# Altium footprint library SparkFun-LED.PCBLIB: 1 footprints
Each footprint in its own frame and in the unit in brackets; x right, y up, seen from the top. Pads: shape width x height; smd on the part's side, far side on the other; paste and mask are expansions set on the pad; w line width, h text height; cw(c..) or ccw(c..) is an arc to the next point about the centre after c.
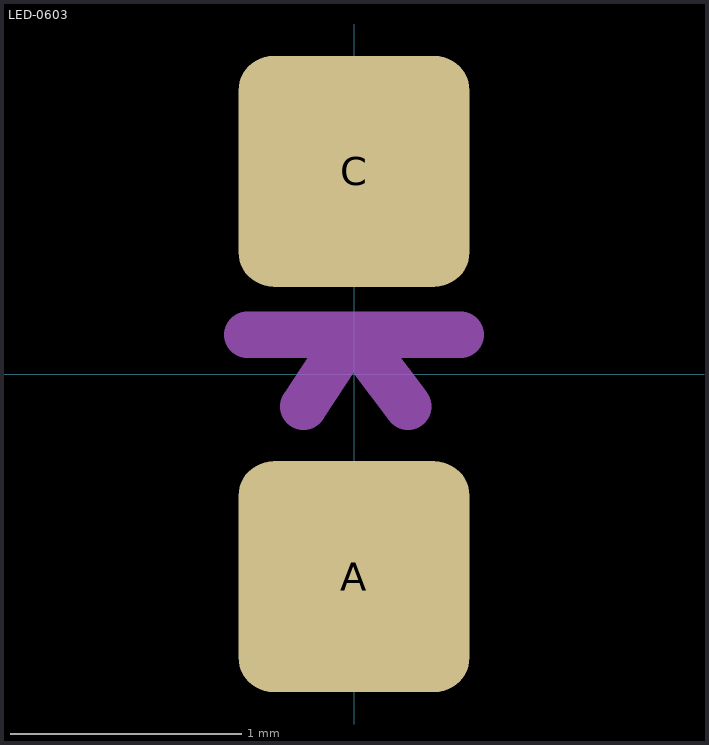
[diagram p0: the footprint, top view; thin cyan lines are the x and y axes]

## LED-0603 [mm]
pads (2):
  rrect30% 1x1 smd: A(0,-0.877) C(0,0.877)
tPlace:
  lines w0.203: -0.46,0.17 0,0.17 ; -0.218,-0.14 -0.025,0.155 ; 0.234,-0.14 0,0.17 ; 0.46,0.17 0,0.17